# EAGLE library part ULN2803 (library aggiunte)
ULN 2803 8 transistor array
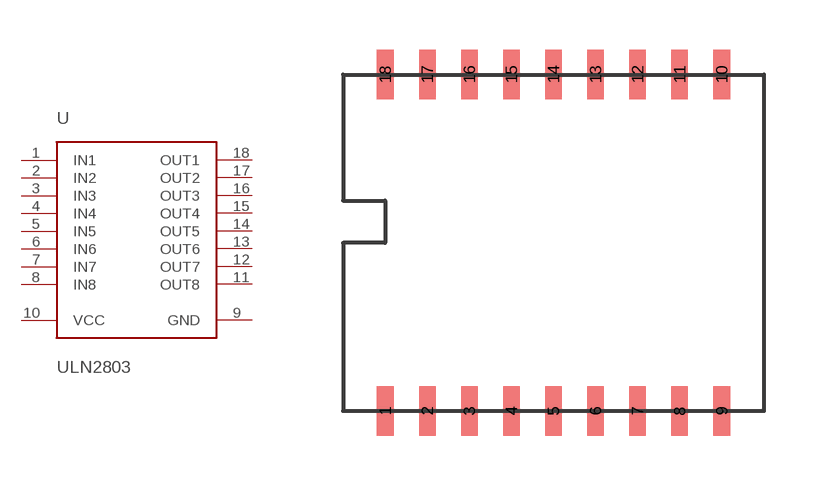
[diagram p11: symbol with the pads of ULN2803; footprint ULN2803]

Designator prefix -

## ULN2803  [ULN2803]
1  IN1  in
2  IN2  in
3  IN3  in
4  IN4  in
5  IN5  in
6  IN6  in
7  IN7  in
8  IN8  in
9  GND  pwr
10  VCC  pwr
11  OUT8  out
12  OUT7  out
13  OUT6  out
14  OUT5  out
15  OUT4  out
16  OUT3  out
17  OUT2  out
18  OUT1  out

## Footprint ULN2803 (pad centres in mm)
smd 0.5 x 1.5: 1 0,1.27; 2 1.27,1.27; 3 2.54,1.27; 4 3.81,1.27; 5 5.08,1.27; 6 6.35,1.27; 7 7.62,1.27; 8 8.89,1.27; 9 10.16,1.27; 10 10.16,11.43; 11 8.89,11.43; 12 7.62,11.43; 13 6.35,11.43; 14 5.08,11.43; 15 3.81,11.43; 16 2.54,11.43; 17 1.27,11.43; 18 0,11.43